# EAGLE library part 791002004 (library WE-RCDS)
WE-RCDS Residual Current Detection Sensor for fault current detection in EV-charging applications Characteristics Compact design for PCB board mounting DC 6mA residual direct current detecting RDC-M-Module for mode 3 EV charging System fault indication Supply voltage drop monitoring Module Software certified according to ANSI/UL 1998, Class 1 Relevant EMC tests according to IEC 62955: 2018 and EN 60730-1 Applications DC- Residual current detection sensor for stationary EV charging devices To meet IEC 6181-1 (ensure the disconnection of the supply in case of DC fault) <https://www.we-online.com/components/media/o785746v209%20Family_WE-RCDS.jpg> Details see: www.we-online.com/components/products/WE-RCDS <www.we-online.com/catalog/WE-RCDS/?utm_source=eagle_model&utm_medium=description_link&utm_campaign=eisos_eagle> Created by Ella 2024-03-18 2024 (C) Wurth Elektronik
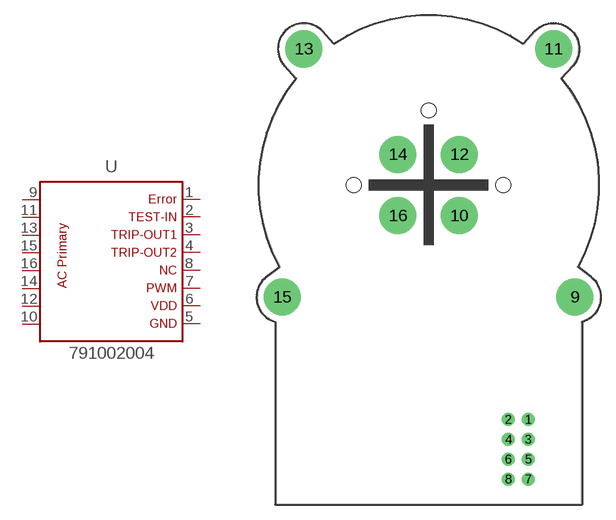
[diagram p0: symbol with the pads of 791002004; footprint 791002004]

Designator prefix U

## 791002004 (DATASHEET-URL: https://www.we-online.com/redexpert/spec/791002004?ae; I-RESIDUAL: 6 mA DC; IP: 40 A max.; MOUNT: THT; OPERATING-TEMPERATURE: -40 °C up to +105 °CMHz; PART-NUMBER: 791002004; TYPE: 3-phase primary conductor; VALUE: 791002004; VERSION: Horizontal)  [791002004]
1  1  pas
2  2  pas
3  3  pas
4  4  pas
5  5  pas
6  6  pas
7  7  pas
8  8  pas
9  9  pas
10  10  pas
11  11  pas
12  12  pas
13  13  pas
14  14  pas
15  15  pas
16  16  pas

## Footprint 791002004 (pad centres in mm)
WE RCDS Residual Current Detection Sensor Horizontall, THT LXWXH=30.6X49X16.3mm
drill 0.8: 1 10,-23.54; 2 8,-23.54; 3 10,-25.54; 4 8,-25.54; 5 10,-27.54; 6 8,-27.54; 7 10,-29.54; 8 8,-29.54
drill 2.7: 9 14.68,-11.26; 10 3.08,-3.08; 11 12.53,13.67; 12 3.08,3.08; 13 -12.53,13.67; 14 -3.08,3.08; 15 -14.68,-11.26; 16 -3.08,-3.08
hole 1.5 at 0,7.5
hole 1.5 at -7.5,0
hole 1.5 at 7.5,0